# Altium footprint library SiLPA_HE.PcbLib: 129 footprints (part 1 of 9)
Each footprint in its own frame and in the unit in brackets; x right, y up, seen from the top. Pads: shape width x height; smd on the part's side, far side on the other; paste and mask are expansions set on the pad; w line width, h text height; cw(c..) or ccw(c..) is an arc to the next point about the centre after c.
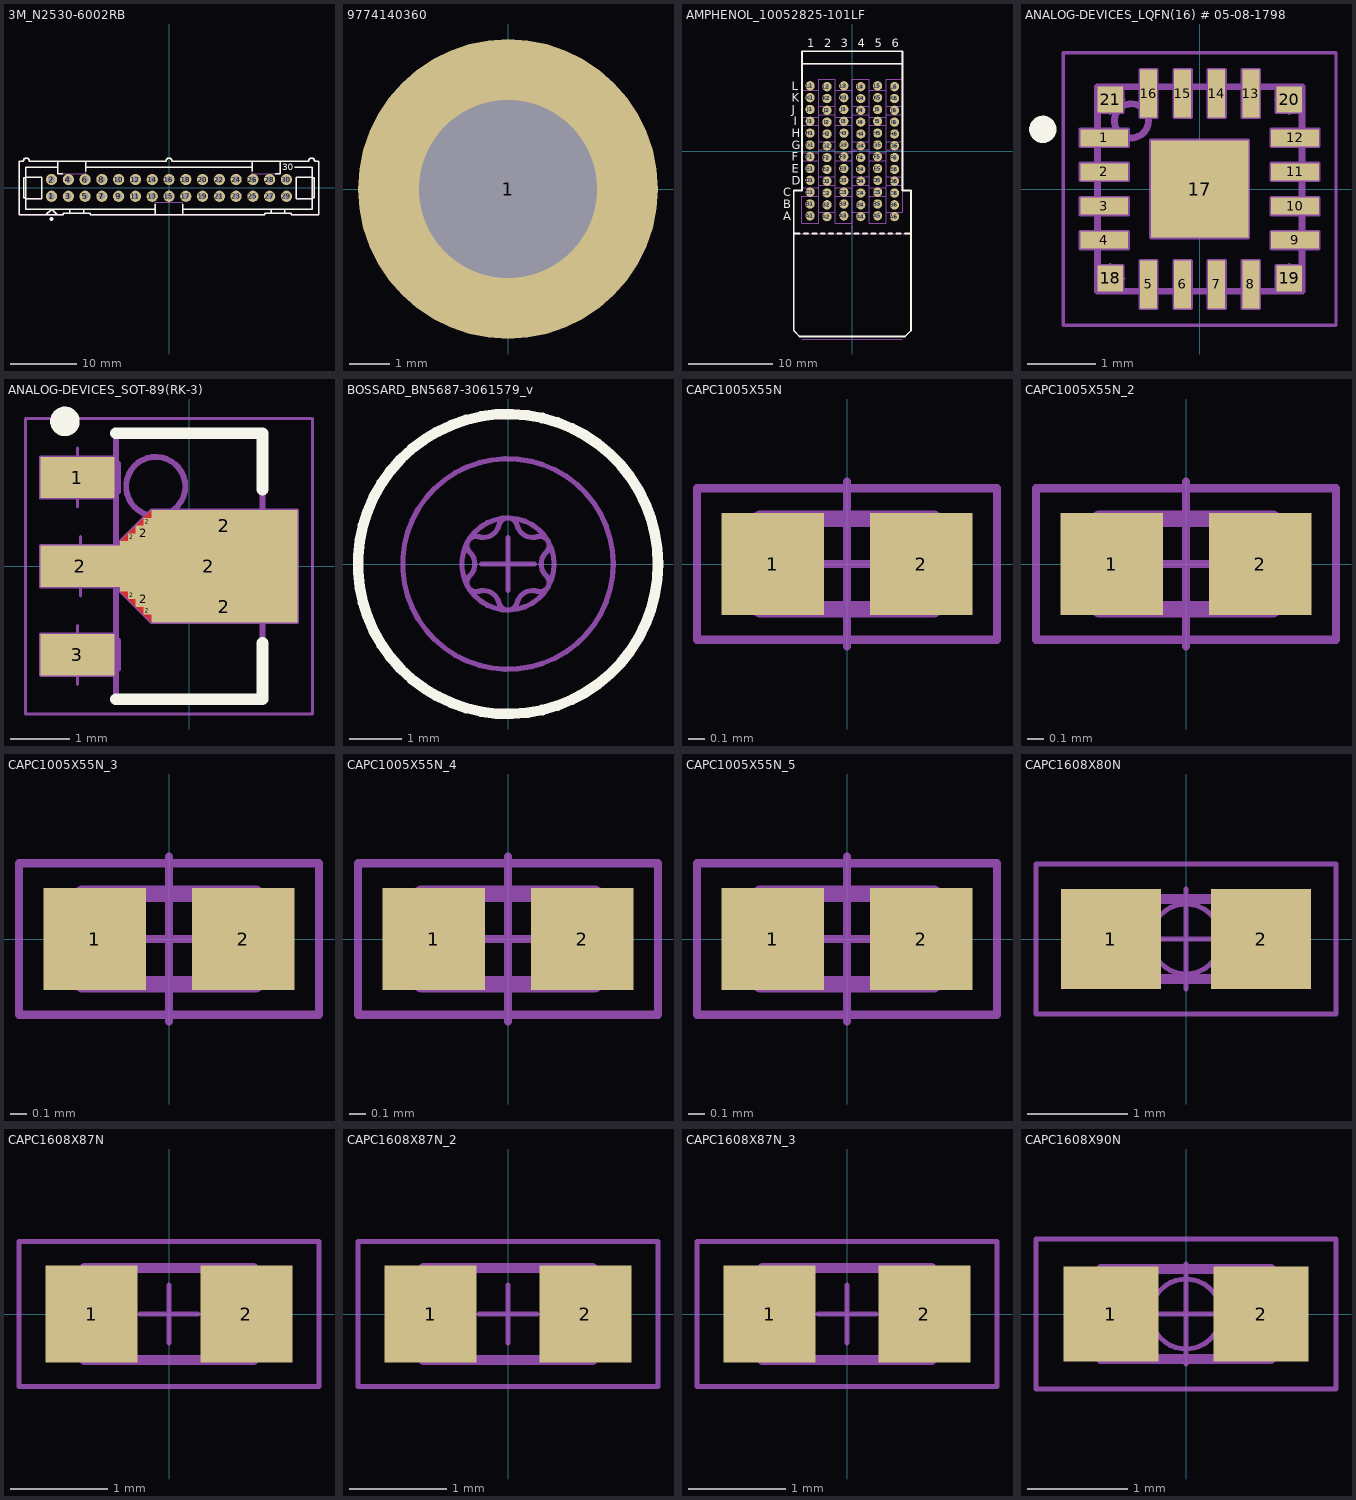
[diagram p0: the footprints below, top view; thin cyan lines are the x and y axes]

## 3M_N2530-6002RB [mm] "30 Contacts - Straight .100\" x .100\" Low Profile Four-Wall Header"
height 9.91
pads (30):
  round 1.7 hole 1: 1(-17.78,-1.27) 2(-17.78,1.27) 3(-15.24,-1.27) 4(-15.24,1.27) 5(-12.7,-1.27) 6(-12.7,1.27) 7(-10.16,-1.27) 8(-10.16,1.27) 9(-7.62,-1.27) 10(-7.62,1.27) 11(-5.08,-1.27) 12(-5.08,1.27) 13(-2.54,-1.27) 14(-2.54,1.27) 15(0,-1.27) 16(0,1.27) 17(2.54,-1.27) 18(2.54,1.27) 19(5.08,-1.27) 20(5.08,1.27) 21(7.62,-1.27) 22(7.62,1.27) 23(10.16,-1.27) 24(10.16,1.27) 25(12.7,-1.27) 26(12.7,1.27) 27(15.24,-1.27) 28(15.24,1.27) 29(17.78,-1.27) 30(17.78,1.27)
Top Overlay:
  circle w0.3: c-17.78,-4.699 r0.15
  lines w0.2: -21.692,-1.603 -19.279,-1.603 -19.279,1.603 -21.692,1.603 ; -21.692,-1.524 -21.996,-1.524 -21.996,1.524 -21.692,1.524 ; -18.644,-4.064 -17.78,-3.2 -16.916,-4.064 ; -16.828,3.15 -21.692,3.15 -21.692,-3.2 -2.096,-3.2 ; -16.828,4.064 -16.828,2.159 -16.119,2.159 ; -15.011,-3.835 -15.011,-3.2 ; -12.929,-3.835 -12.929,-3.2 ; -12.637,2.518 -12.637,4.064 ; -12.637,3.15 12.637,3.15 ; -2.096,-4.064 -2.096,-2.438 ; 2.095,-4.064 2.095,-2.438 ; 2.095,-3.2 21.692,-3.2 21.692,3.15 19.05,3.15 ; 12.637,2.518 12.637,4.064 ; 15.469,-3.835 15.469,-3.2 ; 16.119,2.159 16.828,2.159 16.828,4.064 ; 17.551,-3.835 17.551,-3.2 ; 21.692,-1.603 19.279,-1.603 19.279,1.603 21.692,1.603 ; 21.692,-1.524 21.996,-1.524 21.996,1.524 21.692,1.524 ; -22.708,-4.064 -16.002,-4.064 -16.002,-3.835 -11.938,-3.835 -11.938,-4.064 14.478,-4.064 14.478,-3.835 18.542,-3.835 18.542,-4.064 22.708,-4.064 22.708,4.064 22.047,4.064 ccw(c21.59,4.064) 21.133,4.064 0.457,4.064 ccw(c0,4.064) -0.457,4.064 -21.133,4.064 ccw(c-21.59,4.064) -22.047,4.064 -22.708,4.064 -22.708,-4.064
  text "30" at 17.145,2.667 h1.02
Mechanical 14:
  lines w0.1: -21.692,-1.603 -19.279,-1.603 -19.279,1.603 -21.692,1.603 ; -21.692,-1.524 -21.996,-1.524 -21.996,1.524 -21.692,1.524 ; -18.644,-4.064 -17.78,-3.2 -16.916,-4.064 ; -16.828,3.15 -21.692,3.15 -21.692,-3.2 -2.096,-3.2 ; -16.828,4.064 -16.828,2.159 -12.637,2.159 -12.637,4.064 ; -15.011,-3.835 -15.011,-3.2 ; -12.929,-3.835 -12.929,-3.2 ; -12.637,3.15 12.637,3.15 ; -2.096,-4.064 -2.096,-2.159 2.095,-2.159 2.095,-4.064 ; 2.095,-3.2 21.692,-3.2 21.692,3.15 19.05,3.15 ; 12.637,4.064 12.637,2.159 16.828,2.159 16.828,4.064 ; 15.469,-3.835 15.469,-3.2 ; 17.551,-3.835 17.551,-3.2 ; 21.692,-1.603 19.279,-1.603 19.279,1.603 21.692,1.603 ; 21.692,-1.524 21.996,-1.524 21.996,1.524 21.692,1.524 ; -22.708,-4.064 -16.002,-4.064 -16.002,-3.835 -11.938,-3.835 -11.938,-4.064 14.478,-4.064 14.478,-3.835 18.542,-3.835 18.542,-4.064 22.708,-4.064 22.708,4.064 22.047,4.064 ccw(c21.59,4.064) 21.133,4.064 0.457,4.064 ccw(c0,4.064) -0.457,4.064 -21.133,4.064 ccw(c-21.59,4.064) -22.047,4.064 -22.708,4.064 -22.708,-4.064
  text "30" at 17.145,2.667 h1.02
3D body "3M_N2530-6002RB.stp": height 9.91, standoff -2.84, extent -22.707,-4.115 22.708,4.521

## 9774140360 [mm] "SMD Steel Spacer with internal Thread"
height 15.4
pads (2):
  round 7.4 smd paste-576.133: 1(0,0)
  round 0 hole 4.4 unplated: ""(0,0)
Top Paste:
  drawing of 4 lines, arcs and shapes, not listed
Mechanical 15:
  circle w0.127: c0,0 r3
3D body "9774140360.stp": height 14, standoff -1.4, extent -3.034,-2.94 2.954,3.036

## AMPHENOL_10052825-101LF [mm]
pads (72):
  round 1.1 hole 0.5: A1(-5,-7.65) A2(-3,-7.75) A3(-1,-7.65) A4(1,-7.75) A5(3,-7.65) A6(5,-7.75) B1(-5,-6.25) B2(-3,-6.35) B3(-1,-6.25) B4(1,-6.35) B5(3,-6.25) B6(5,-6.35) C1(-5,-4.85) C2(-3,-4.95) C3(-1,-4.85) C4(1,-4.95) C5(3,-4.85) C6(5,-4.95) D1(-5,-3.45) D2(-3,-3.55) D3(-1,-3.45) D4(1,-3.55) D5(3,-3.45) D6(5,-3.55) E1(-5,-2.05) E2(-3,-2.15) E3(-1,-2.05) E4(1,-2.15) E5(3,-2.05) E6(5,-2.15) F1(-5,-0.65) F2(-3,-0.75) F3(-1,-0.65) F4(1,-0.75) F5(3,-0.65) F6(5,-0.75) G1(-5,0.75) G2(-3,0.65) G3(-1,0.75) G4(1,0.65) G5(3,0.75) G6(5,0.65) H1(-5,2.15) H2(-3,2.05) H3(-1,2.15) H4(1,2.05) H5(3,2.15) H6(5,2.05) I1(-5,3.55) I2(-3,3.45) I3(-1,3.55) I4(1,3.45) I5(3,3.55) I6(5,3.45) J1(-5,4.95) J2(-3,4.85) J3(-1,4.95) J4(1,4.85) J5(3,4.95) J6(5,4.85) K1(-5,6.35) K2(-3,6.25) K3(-1,6.35) K4(1,6.25) K5(3,6.35) K6(5,6.25) L1(-5,7.75) L2(-3,7.65) L3(-1,7.75) L4(1,7.65) L5(3,7.75) L6(5,7.65)
Top Overlay:
  lines w0.2: -6.95,-9.75 -6.25,-9.75 ; -5.95,10.35 5.95,10.35 ; -5.75,-9.75 -5.25,-9.75 ; -4.75,-9.75 -4.25,-9.75 ; -3.75,-9.75 -3.25,-9.75 ; -2.75,-9.75 -2.25,-9.75 ; -1.75,-9.75 -1.25,-9.75 ; -0.75,-9.75 -0.25,-9.75 ; 0.25,-9.75 0.75,-9.75 ; 1.25,-9.75 1.75,-9.75 ; 2.25,-9.75 2.75,-9.75 ; 3.25,-9.75 3.75,-9.75 ; 4.25,-9.75 4.75,-9.75 ; 5.25,-9.75 5.75,-9.75 ; 6.25,-9.75 6.95,-9.75 ; -6.95,-21.25 -6.95,-4.65 -5.95,-4.65 -5.95,11.85 5.95,11.85 5.95,-4.65 6.95,-4.65 6.95,-21.25 6.25,-21.95 -6.25,-21.95 -6.95,-21.25
  text "A" at -8.2,-8.15 h1
  text "B" at -8.2,-6.75 h1
  text "C" at -8.2,-5.35 h1
  text "D" at -7.2,-3.95 h1
  text "E" at -7.2,-2.55 h1
  text "F" at -7.2,-1.15 h1
  text "G" at -7.2,0.25 h1
  text "H" at -7.2,1.65 h1
  text "I" at -6.95,3.05 h1
  text "J" at -7.2,4.45 h1
  text "K" at -7.2,5.85 h1
  text "L" at -7.2,7.25 h1
  text "1" at -5.35,12.3 h1
  text "2" at -3.35,12.3 h1
  text "3" at -1.35,12.3 h1
  text "4" at 0.65,12.3 h1
  text "5" at 2.65,12.3 h1
  text "6" at 4.65,12.3 h1
Mechanical 8:
  drawing of 248 lines, arcs and shapes, not listed
  text "Top Surface of Mother Board" at -4.375,-22 h0.5
  text "Edge of Daugher Card" at -3.225,-10.5 h0.5
Mechanical 14:
  lines w0.1: -6.95,-9.75 -6.25,-9.75 ; -5.95,10.35 5.95,10.35 ; -5.75,-9.75 -5.25,-9.75 ; -4.75,-9.75 -4.25,-9.75 ; -3.75,-9.75 -3.25,-9.75 ; -2.75,-9.75 -2.25,-9.75 ; -1.75,-9.75 -1.25,-9.75 ; -0.75,-9.75 -0.25,-9.75 ; 0.25,-9.75 0.75,-9.75 ; 1.25,-9.75 1.75,-9.75 ; 2.25,-9.75 2.75,-9.75 ; 3.25,-9.75 3.75,-9.75 ; 4.25,-9.75 4.75,-9.75 ; 5.25,-9.75 5.75,-9.75 ; 6.25,-9.75 6.95,-9.75 ; -6.95,-21.25 -6.95,-4.65 -5.95,-4.65 -5.95,11.85 5.95,11.85 5.95,-4.65 6.95,-4.65 6.95,-21.25 6.25,-21.95 -6.25,-21.95 -6.95,-21.25
  text "A" at -8.2,-8.15 h1
  text "B" at -8.2,-6.75 h1
  text "C" at -8.2,-5.35 h1
  text "D" at -7.2,-3.95 h1
  text "E" at -7.2,-2.55 h1
  text "F" at -7.2,-1.15 h1
  text "G" at -7.2,0.25 h1
  text "H" at -7.2,1.65 h1
  text "I" at -6.95,3.05 h1
  text "J" at -7.2,4.45 h1
  text "K" at -7.2,5.85 h1
  text "L" at -7.2,7.25 h1
  text "1" at -5.35,12.3 h1
  text "2" at -3.35,12.3 h1
  text "3" at -1.35,12.3 h1
  text "4" at 0.65,12.3 h1
  text "5" at 2.65,12.3 h1
  text "6" at 4.65,12.3 h1
Drill Drawing:
  lines w0.1: -6,-8.75 6,-8.75 6,8.75 -6,8.75 -6,-8.75
  text "PRESS-FIT TECHNOLOGY" at 7.5,-8.4 h1
  text "Diam. 0.5mm +/-0.05" at 9,-8.4 h1
3D body "AMPHENOL_10052825-101LF.stp": height 15.25, standoff -4.45, extent -6.95,-21.95 6.95,11.85

## ANALOG-DEVICES_LQFN(16) # 05-08-1798 [mm] "LQFN, 16-Lead, 0.50mm Pitch; 3.50mm W X 3.50mm L X 0.83mm H body (with 4 Tab 0.375 X0.375mm and with a Thermal Tab 1.43 X1.43mm)# 05-08-1798"
height 1.05
pads (21):
  rect 0.7x0.25 smd: 1(-1.4,0.75) 2(-1.4,0.25) 3(-1.4,-0.25) 4(-1.4,-0.75) 9(1.4,-0.75) 10(1.4,-0.25) 11(1.4,0.25) 12(1.4,0.75)
  rect 0.25x0.7 smd: 5(-0.75,-1.4) 6(-0.25,-1.4) 7(0.25,-1.4) 8(0.75,-1.4) 13(0.75,1.4) 14(0.25,1.4) 15(-0.25,1.4) 16(-0.75,1.4)
  rect 1.43x1.43 smd: 17(0,0)
  rect 0.375x0.375 smd: 18(-1.312,-1.312) 19(1.312,-1.312) 20(1.312,1.312) 21(-1.312,1.312)
Top Overlay:
  circle w0.2: c-2.3,0.875 r0.1
Mechanical 8:
  lines w0.05: -1.512,-1.312 -1.312,-1.312 ; -1.512,1.312 -1.312,1.312 ; -1.312,-1.512 -1.312,-1.312 ; -1.312,-1.112 -1.312,-1.312 ; -1.312,1.112 -1.312,1.312 ; -1.312,1.512 -1.312,1.312 ; -1.112,-1.312 -1.312,-1.312 ; -1.112,1.312 -1.312,1.312 ; -0.5,0 0,0 ; 0,-0.5 0,0 ; 0,0.5 0,0 ; 0.5,0 0,0 ; 1.112,-1.312 1.312,-1.312 ; 1.112,1.312 1.312,1.312 ; 1.312,-1.512 1.312,-1.312 ; 1.312,-1.112 1.312,-1.312 ; 1.312,1.112 1.312,1.312 ; 1.312,1.512 1.312,1.312 ; 1.512,-1.312 1.312,-1.312 ; 1.512,1.312 1.312,1.312 ; -1.75,-0.875 -1.75,-0.625 ; -1.75,-0.875 -1.05,-0.875 -1.05,-0.625 -1.75,-0.625 ; -1.75,-0.875 -1.4,-0.75 -1.75,-0.625 ; -1.75,-0.375 -1.75,-0.125 ; -1.75,-0.375 -1.05,-0.375 -1.05,-0.125 -1.75,-0.125 ; -1.75,-0.375 -1.4,-0.25 -1.75,-0.125 ; -1.75,0.125 -1.75,0.375 ; -1.75,0.125 -1.05,0.125 -1.05,0.375 -1.75,0.375 ; -1.75,0.125 -1.4,0.25 -1.75,0.375 ; -1.75,0.625 -1.75,0.875 ; -1.75,0.625 -1.05,0.625 -1.05,0.875 -1.75,0.875 ; -1.75,0.625 -1.4,0.75 -1.75,0.875 ; -0.875,-1.75 -0.625,-1.75 ; -0.875,-1.75 -0.875,-1.05 -0.625,-1.05 -0.625,-1.75 ; -0.875,-1.75 -0.75,-1.4 -0.625,-1.75 ; -0.875,1.75 -0.625,1.75 ; -0.875,1.75 -0.875,1.05 -0.625,1.05 -0.625,1.75 ; -0.875,1.75 -0.75,1.4 -0.625,1.75 ; -0.375,-1.75 -0.125,-1.75 ; -0.375,-1.75 -0.375,-1.05 -0.125,-1.05 -0.125,-1.75 ; -0.375,-1.75 -0.25,-1.4 -0.125,-1.75 ; -0.375,1.75 -0.125,1.75 ; -0.375,1.75 -0.375,1.05 -0.125,1.05 -0.125,1.75 ; -0.375,1.75 -0.25,1.4 -0.125,1.75 ; 0.125,-1.75 0.375,-1.75 ; 0.125,-1.75 0.125,-1.05 0.375,-1.05 0.375,-1.75 ; 0.125,-1.75 0.25,-1.4 0.375,-1.75 ; 0.125,1.75 0.375,1.75 ; 0.125,1.75 0.125,1.05 0.375,1.05 0.375,1.75 ; 0.125,1.75 0.25,1.4 0.375,1.75 ; 0.625,-1.75 0.875,-1.75 ; 0.625,-1.75 0.625,-1.05 0.875,-1.05 0.875,-1.75 ; 0.625,-1.75 0.75,-1.4 0.875,-1.75 ; 0.625,1.75 0.875,1.75 ; 0.625,1.75 0.625,1.05 0.875,1.05 0.875,1.75 ; 0.625,1.75 0.75,1.4 0.875,1.75 ; 1.75,-0.875 1.75,-0.625 ; 1.75,-0.875 1.05,-0.875 1.05,-0.625 1.75,-0.625 ; 1.75,-0.875 1.4,-0.75 1.75,-0.625 ; 1.75,-0.375 1.75,-0.125 ; 1.75,-0.375 1.05,-0.375 1.05,-0.125 1.75,-0.125 ; 1.75,-0.375 1.4,-0.25 1.75,-0.125 ; 1.75,0.125 1.75,0.375 ; 1.75,0.125 1.05,0.125 1.05,0.375 1.75,0.375 ; 1.75,0.125 1.4,0.25 1.75,0.375 ; 1.75,0.625 1.75,0.875 ; 1.75,0.625 1.05,0.625 1.05,0.875 1.75,0.875 ; 1.75,0.625 1.4,0.75 1.75,0.875 ; -1.5,-1.5 -1.125,-1.5 -1.125,-1.125 -1.5,-1.125 -1.5,-1.5 ; -1.5,1.125 -1.125,1.125 -1.125,1.5 -1.5,1.5 -1.5,1.125 ; -0.715,-0.715 0.715,-0.715 0.715,0.715 -0.715,0.715 -0.715,-0.715 ; 1.125,-1.5 1.125,-1.125 1.5,-1.125 1.5,-1.5 1.125,-1.5 ; 1.125,1.125 1.5,1.125 1.5,1.5 1.125,1.5 1.125,1.125
Mechanical 14:
  circle w0.1: c-1,1 r0.25
  lines w0.1: -1.5,-1.5 -1.5,1.5 1.5,1.5 1.5,-1.5 -1.5,-1.5
Mechanical 15:
  lines w0.05: -2,-2 -2,2 2,2 2,-2 -2,-2
3D body "ANALOG-DEVICES_LQFN(16) # 05-08-1798.stp": height 1.05, standoff 0, extent -1.5,-1.5 1.5,1.5

## ANALOG-DEVICES_SOT-89(RK-3) [mm] "SOT89, 1.50mm Pitch; 3-Leads, 2.5mm W X 4.5mm L X 1.6mm H body"
height 1.6
pads (12):
  rect 1.25x0.7 smd: 1(-1.89,1.5) 3(-1.89,-1.5)
  rect 1.35x0.7 smd: 2(-1.84,0)
  rect 0.131x0.131 smd: 2(-0.968,-0.491) 2(-0.968,0.49) 2(-0.706,-0.753) 2(-0.706,0.753)
  rect 0.262x0.262 smd: 2(-0.771,-0.556) 2(-0.771,0.556)
  rect 3x0.85 smd: 2(0.335,0)
  rect 2.475x0.525 smd: 2(0.597,-0.688) 2(0.597,0.687)
Top Layer:
  region: -1.165,0.425 -0.64,0.95 -0.64,-0.95 -1.165,-0.425
Top Overlay:
  circle w0.25: c-2.1,2.45 r0.125
  lines w0.2: -1.24,-2.25 1.24,-2.25 1.24,-1.3 ; -1.24,2.25 1.24,2.25 1.24,1.3
Mechanical 8:
  lines w0.01: -1.034,-0.556 -0.968,-0.491 -1.034,-0.425 ; -1.034,0.425 -0.968,0.49 -1.034,0.556 ; -0.903,-0.688 -0.771,-0.556 -0.903,-0.425 ; -0.903,0.425 -0.771,0.556 -0.903,0.687 ; -0.771,-0.819 -0.706,-0.753 -0.771,-0.688 ; -0.771,0.687 -0.706,0.753 -0.771,0.819
  lines w0.05: -2.39,-1.5 -1.89,-1.5 ; -2.39,1.5 -1.89,1.5 ; -2.34,0 -1.84,0 ; -1.89,-2 -1.89,-1.5 ; -1.89,-1 -1.89,-1.5 ; -1.89,1 -1.89,1.5 ; -1.89,2 -1.89,1.5 ; -1.84,-0.5 -1.84,0 ; -1.84,0.5 -1.84,0 ; -1.39,-1.5 -1.89,-1.5 ; -1.39,1.5 -1.89,1.5 ; -1.34,0 -1.84,0 ; -1.165,-0.35 -2.515,-0.35 -2.515,0.35 -1.165,0.35 ; -1.034,-0.425 -1.034,-0.556 -0.903,-0.556 ; -1.034,0.425 -1.034,0.556 -0.903,0.556 ; -0.771,-0.688 -0.771,-0.819 -0.64,-0.819 ; -0.771,0.687 -0.771,0.819 -0.64,0.819 ; -0.64,-0.688 -0.903,-0.688 -0.903,-0.425 -0.64,-0.425 ; -0.64,0.687 -0.903,0.687 -0.903,0.425 -0.64,0.425 ; -0.5,0 0,0 ; 0,-0.5 0,0 ; 0,0.5 0,0 ; 0.5,0 0,0 ; -1.165,-0.425 -1.165,0.425 ; -1.165,-0.425 1.835,-0.425 ; -1.165,-0.425 -0.64,-0.95 ; -1.165,0.425 1.835,0.425 ; -1.165,0.425 -0.64,0.95 ; -0.64,-0.95 0.597,-0.688 -0.64,-0.425 ; -0.64,-0.95 -0.64,-0.425 ; -0.64,-0.95 1.835,-0.95 1.835,-0.425 ; -0.64,0.425 0.597,0.687 -0.64,0.95 ; -0.64,0.425 -0.64,0.95 ; -0.64,0.95 1.835,0.95 1.835,0.425 ; 1.835,-0.425 0.335,0 1.835,0.425 ; 1.835,-0.425 1.835,0.425 ; -2.515,-1.85 -2.515,-1.15 -1.265,-1.15 -1.265,-1.85 -2.515,-1.85 ; -2.515,1.15 -2.515,1.85 -1.265,1.85 -1.265,1.15 -2.515,1.15
Mechanical 14:
  circle w0.1: c-0.565,1.35 r0.5
  lines w0.1: -1.24,-1.74 -1.24,-2.25 1.24,-2.25 1.24,-0.8 ; -1.24,-1.26 -1.24,-0.24 ; -1.24,0.24 -1.24,1.26 ; -1.24,1.74 -1.24,2.25 1.24,2.25 1.24,0.8 ; -2.44,-1.74 -2.44,-1.26 -1.206,-1.26 -1.206,-1.74 -2.44,-1.74 ; -2.44,-0.24 -2.44,0.24 -1.206,0.24 -1.206,-0.24 -2.44,-0.24 ; -2.44,1.26 -2.44,1.74 -1.206,1.74 -1.206,1.26 -2.44,1.26 ; 1.206,-0.8 1.206,0.8 1.61,0.8 cw(c1.61,0.6) 1.81,0.6 1.81,-0.6 cw(c1.61,-0.6) 1.61,-0.8 1.206,-0.8
Mechanical 15:
  lines w0.05: -2.765,-2.5 2.085,-2.5 2.085,2.5 -2.765,2.5 -2.765,-2.5
3D body "ANALOG-DEVICES_SOT-89(RK-3).stp": height 1.6, standoff 0, extent -2.44,-2.25 1.81,2.25

## BOSSARD_BN5687-3061579_v [mm] "M2 L=4mm Hexalobular Socket Pan Head Screw, Fully Threaded - Stainless Steel A2"
height 5.6
Top Overlay:
  circle w0.2: c0,0 r2.85
Mechanical 8:
  lines w0.1: -0.5,0 0,0 ; 0,-0.5 0,0 ; 0,0.5 0,0 ; 0.5,0 0,0
Mechanical 14:
  circle w0.1: c0,0 r2
  circle w0.1: c0,0 r0.875
  lines w0.1: -0.726,-0.223 ccw(c-0.606,-0.35) -0.556,-0.518 cw(c-0.468,-0.811) -0.17,-0.74 ccw(c0,-0.7) 0.17,-0.74 cw(c0.468,-0.811) 0.556,-0.518 ccw(c0.606,-0.35) 0.726,-0.223 cw(c0.937,0) 0.726,0.223 ccw(c0.606,0.35) 0.556,0.518 cw(c0.468,0.811) 0.17,0.74 ccw(c0,0.7) -0.17,0.74 cw(c-0.468,0.811) -0.556,0.518 ccw(c-0.606,0.35) -0.726,0.223 cw(c-0.937,0) -0.726,-0.223
3D body "BOSSARD_BN5687-3061579_v.stp": height 1.6, standoff -4, extent -2,-2 2,2

## CAPC1005X55N [mm]
height 8.8
pads (2):
  rect 0.62x0.62 smd: 1(-0.45,0) 2(0.45,0)
Mechanical 14:
  lines w0.1: -0.525,-0.275 -0.525,0.275 0.525,0.275 0.525,-0.275 -0.525,-0.275
Mechanical 15:
  lines w0.05: -0.5,0 0.5,0 ; 0,-0.5 0,0.5 ; -0.91,-0.46 -0.91,0.46 0.91,0.46 0.91,-0.46 -0.91,-0.46
3D body "CAPC1005X55N.stp": height 0.55, standoff 0, extent -0.525,-0.275 0.525,0.275

## CAPC1005X55N_2 [mm]
pads (2):
  rect 0.62x0.62 smd: 1(-0.45,0) 2(0.45,0)
Mechanical 14:
  lines w0.1: -0.525,-0.275 0.525,-0.275 0.525,0.275 -0.525,0.275 -0.525,-0.275
Mechanical 15:
  lines w0.05: -0.5,0 0.5,0 ; 0,-0.5 0,0.5 ; -0.91,-0.46 0.91,-0.46 0.91,0.46 -0.91,0.46 -0.91,-0.46
3D body "CAPC1005X55N.stp": height 0.55, standoff 0, extent -0.525,-0.275 0.525,0.275

## CAPC1005X55N_3 [mm]
pads (2):
  rect 0.62x0.62 smd: 1(-0.45,0) 2(0.45,0)
Mechanical 14:
  lines w0.1: -0.525,-0.275 0.525,-0.275 0.525,0.275 -0.525,0.275 -0.525,-0.275
Mechanical 15:
  lines w0.05: -0.5,0 0.5,0 ; 0,-0.5 0,0.5 ; -0.91,-0.46 0.91,-0.46 0.91,0.46 -0.91,0.46 -0.91,-0.46
3D body "CAPC1005X55N.stp": height 0.55, standoff 0, extent -0.525,-0.275 0.525,0.275

## CAPC1005X55N_4 [mm]
pads (2):
  rect 0.62x0.62 smd: 1(-0.45,0) 2(0.45,0)
Mechanical 14:
  lines w0.1: -0.525,-0.275 0.525,-0.275 0.525,0.275 -0.525,0.275 -0.525,-0.275
Mechanical 15:
  lines w0.05: -0.5,0 0.5,0 ; 0,-0.5 0,0.5 ; -0.91,-0.46 0.91,-0.46 0.91,0.46 -0.91,0.46 -0.91,-0.46
3D body "CAPC1005X55N.stp": height 0.55, standoff 0, extent -0.525,-0.275 0.525,0.275

## CAPC1005X55N_5 [mm]
pads (2):
  rect 0.62x0.62 smd: 1(-0.45,0) 2(0.45,0)
Mechanical 14:
  lines w0.1: -0.525,-0.275 0.525,-0.275 0.525,0.275 -0.525,0.275 -0.525,-0.275
Mechanical 15:
  lines w0.05: -0.5,0 0.5,0 ; 0,-0.5 0,0.5 ; -0.91,-0.46 0.91,-0.46 0.91,0.46 -0.91,0.46 -0.91,-0.46
3D body "CAPC1005X55N.stp": height 0.55, standoff 0, extent -0.525,-0.275 0.525,0.275

## CAPC1608X80N [mm] "Chip Capacitor, Body 1.6x0.8mm IPC Medium Density"
height 0.8
pads (2):
  rect 1x1 smd: 1(-0.75,0) 2(0.75,0)
Mechanical 14:
  lines w0.1: -0.8,-0.4 0.8,-0.4 0.8,0.4 -0.8,0.4 -0.8,-0.4
Mechanical 15:
  circle w0.05: c0,0 r0.35
  lines w0.05: -0.5,0 0.5,0 ; 0,-0.5 0,0.5 ; -1.5,-0.75 1.5,-0.75 1.5,0.75 -1.5,0.75 -1.5,-0.75
3D body "CAPC1608X80N.stp": height 0.8, standoff 0, extent -0.875,-0.475 0.875,0.475

## CAPC1608X87N [mm]
height 8.8
pads (2):
  rect 0.95x1 smd: 1(-0.8,0) 2(0.8,0)
Mechanical 14:
  lines w0.1: -0.875,-0.475 -0.875,0.475 0.875,0.475 0.875,-0.475 -0.875,-0.475
Mechanical 15:
  lines w0.05: -0.3,0 0.3,0 ; 0,-0.3 0,0.3 ; -1.55,-0.75 1.55,-0.75 1.55,0.75 -1.55,0.75 -1.55,-0.75
3D body "CAPC1608X87N.stp": height 0.87, standoff 0, extent -0.875,-0.475 0.875,0.475

## CAPC1608X87N_2 [mm]
pads (2):
  rect 0.95x1 smd: 1(-0.8,0) 2(0.8,0)
Mechanical 14:
  lines w0.1: -0.875,-0.475 0.875,-0.475 0.875,0.475 -0.875,0.475 -0.875,-0.475
Mechanical 15:
  lines w0.05: -0.3,0 0.3,0 ; 0,-0.3 0,0.3 ; -1.55,-0.75 -1.55,0.75 1.55,0.75 1.55,-0.75 -1.55,-0.75
3D body "CAPC1608X87N.stp": height 0.87, standoff 0, extent -0.875,-0.475 0.875,0.475

## CAPC1608X87N_3 [mm]
pads (2):
  rect 0.95x1 smd: 1(-0.8,0) 2(0.8,0)
Mechanical 14:
  lines w0.1: -0.875,-0.475 0.875,-0.475 0.875,0.475 -0.875,0.475 -0.875,-0.475
Mechanical 15:
  lines w0.05: -0.3,0 0.3,0 ; 0,-0.3 0,0.3 ; -1.55,-0.75 -1.55,0.75 1.55,0.75 1.55,-0.75 -1.55,-0.75
3D body "CAPC1608X87N.stp": height 0.87, standoff 0, extent -0.875,-0.475 0.875,0.475

## CAPC1608X90N [mm] "Chip Capacitor, Body 1.6x0.8mm IPC Medium Density"
height 0.9
pads (2):
  rect 0.95x0.95 smd: 1(-0.75,0) 2(0.75,0)
Mechanical 14:
  lines w0.1: -0.85,-0.45 0.85,-0.45 0.85,0.45 -0.85,0.45 -0.85,-0.45
Mechanical 15:
  circle w0.05: c0,0 r0.35
  lines w0.05: -0.5,0 0.5,0 ; 0,-0.5 0,0.5 ; -1.5,-0.75 1.5,-0.75 1.5,0.75 -1.5,0.75 -1.5,-0.75
3D body "CAPC1608X90N.stp": height 0.9, standoff 0, extent -0.85,-0.45 0.85,0.45